# Altium integrated library Linear Technology Power Management Switching Regulator LTC1174-LTC3901.IntLib: 2647 symbols (part 342 of 364)
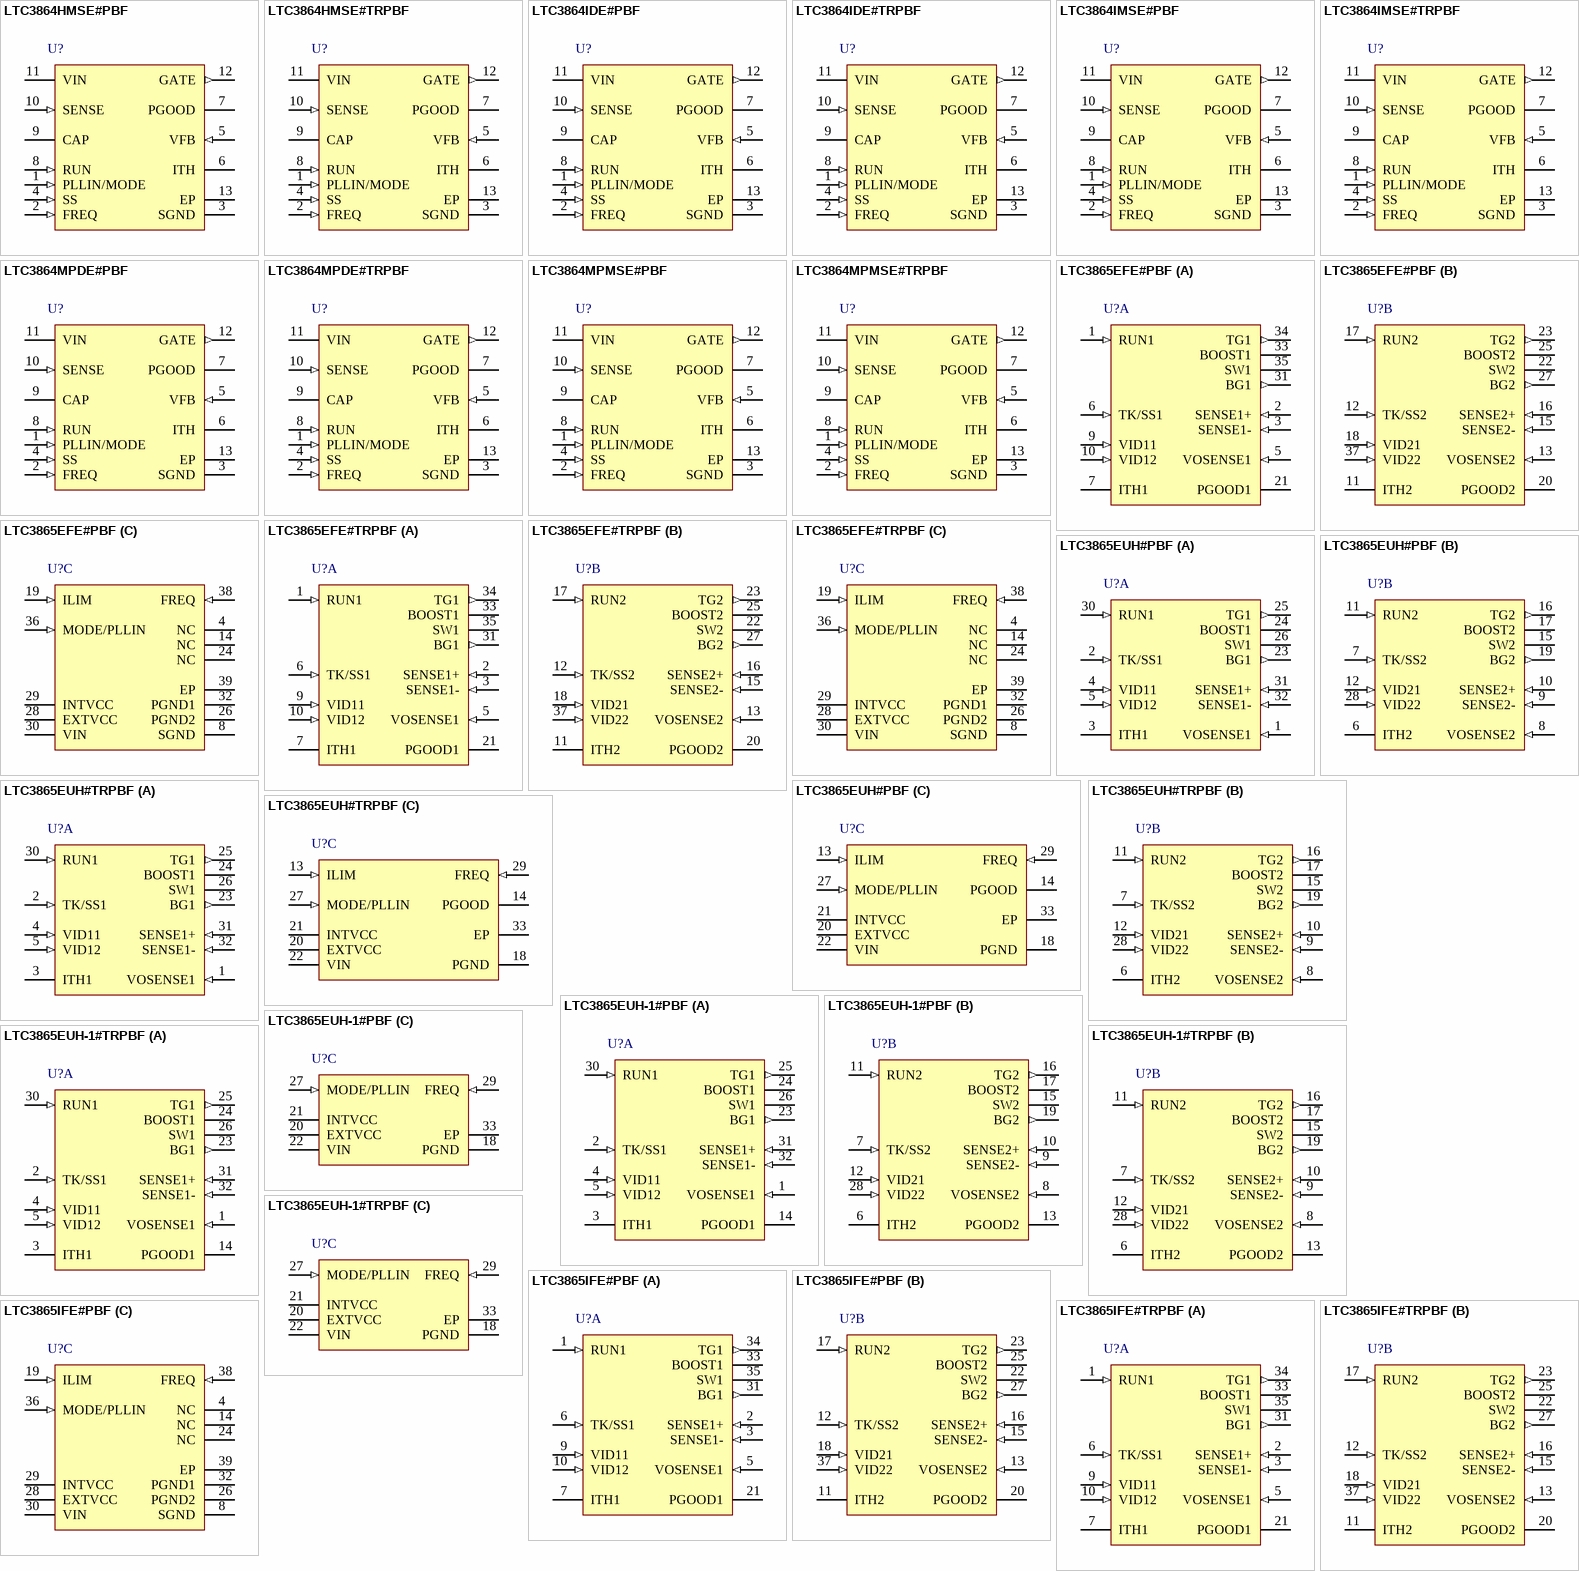
[diagram p294: symbols LTC3864HMSE#PBF to LTC3865IFE#TRPBF]

## LTC3864HMSE#TRPBF
designator U?
Low IQ Step-Down DC/DC Controller with 100% Duty Cycle Capability, 12-pin SOP (MSE-12-EDP), -40 to 150 degC, Pb-Free, Tape and Reel; Manufacturer: Linear Technology; PartNumber: LTC3864HMSE#TRPBF; Frequency Sync Range: 75kHz - 750kHz; Number of Outputs: 1; PackageVersion: Rev. G, 05/2013; PackageReference: MSE-12-EDP; PackageDescription: 12-Pin Plastic MSOP, Exposed Die Pad, Body 4.039 x 3 mm, Pitch 0.65 mm; Supplier 1: Digi-Key; Supplier Part Number 1: LTC3864HMSE#TRPBF-ND; Supplier 2: Newark; Supplier Part Number 2: 48W6404; Packing: Tape and Reel; RoHS: TRUE; Mounting Technology: Surface Mount; ComponentLink1Description: Manufacturer URL; ComponentLink1URL: http://www.linear.com/; ComponentLink2Description: Datasheet; ComponentLink2URL: http://cds.linear.com/docs/en/datasheet/3864f.pdf; ComponentLink3Description: Package Specification; ComponentLink3URL: http://cds.linear.com/docs/en/packaging/05081666_G_MSE12.pdf
footprint LT-MSE-12-EDP_N (SOP, 12-Leads, Body 4.1x3.1mm, Pitch 0.65mm, Thermal Pad 2.95x1.76mm, IPC Medium Density)
footprint LT-MSE-12-EDP_L (SOP, 12-Leads, Body 4.1x3.1mm, Pitch 0.65mm, Thermal Pad 2.95x1.76mm, IPC High Density)
footprint LT-MSE-12-EDP_M (SOP, 12-Leads, Body 4.1x3.1mm, Pitch 0.65mm, Thermal Pad 2.95x1.76mm, IPC Low Density)
pins: 1 PLLIN/MODE (in) "External Reference Clock Input and Burst Mode Enable/Disable. When an external clock is applied to this pin, the internal phase-locked loop will synchronize the turn-on edge of the gate drive signal with the rising edge of (See Datasheet)", 2 FREQ (in) "Switching Frequency Set Point Input. The switching frequency is programmed by an external setpoint resistor RFREQ connected between the FREQ pin and signal ground. An internal 20uA current source creates a voltage across the (See Datasheet)", 3 SGND (power) "Ground Reference for Small Signal Analog Component (Signal Ground). Signal ground should be used as the common ground for all small signal analog inputs and compensation components. Connect signal ground to power ground (See Datasheet)", 4 SS (in) "Soft-Start and External Tracking Input. The LTC3864 regulates the feedback voltage to the smaller of 0.8V or the voltage on the SS pin. An internal 10uA pull-up current source is connected to this pin. A capacitor to ground (See Datasheet)", 5 VFB (in) "Output Feedback Sense. A resistor divider from the regulated output point to this pin sets the output voltage. The LTC3864 will nominally regulate VFB to the internal reference value of 0.8V. If VFB is less than 0.4V, the (See Datasheet)", 6 ITH "Current Control Threshold and Controller Compensation Point. This pin is the output of the error amplifier and the switching regulator? compensation point. The voltage ranges from 0V to 2.9V, with 0.8V corresponding t(See Datasheet)", 7 PGOOD (oc) "Power Good Indicator Output. This open drain logic output is pulled to ground when the output voltage is outside of a +/-10% window around the regulation point. The PGOOD switches states only after a 100us delay.", 8 RUN (in) "Digital Run Control Input. A RUN voltage above the 1.26V threshold enables normal operation, while a voltage below the threshold shuts down the controller. An internal 0.4uA current source pulls the RUN pin up to about 3.3V. (See Datasheet)", 9 CAP (power) "Gate Driver (-) Supply. A low ESR ceramic bypass capacitor of at least 0.1uF or 10X the effective CMILLER of the P-channel power MOSFET, is required from VIN to this pin to serve as a bypass capacitor for the internal (See Datasheet)", 10 SENSE (in) "Current Sense Input. A sense resistor RSENSE from VIN pin to the SENSE pin sets the maximum current limit. The peak inductor current limit is equal to 95mV/RSENSE. For accuracy, it is important that the VINpin and the SENSE (See Datasheet)", 11 VIN (power) "Chip Power Supply. A minimum bypass capacitor of 0.1uF is required from the VIN pin to power ground. For best performance use a low ESR ceramic capacitor placed near the VIN pin.", 12 GATE (out) "Gate Drive Output for External P-Channel MOSFET. The gate driver bias supply voltage (VIN-VCAP) is regulated to 8V when VIN is greater than 8V. The gate driver is disabled when (VIN-VCAP) is less than 3.5V (typical), 3.8V (See Datasheet)", 13 EP (power) "Ground Reference for Power Components (Power Ground). The PGND exposed pad must be soldered to the circuit board for electrical contact and for rated thermal performance of the package. Connect signal ground to power ground (See Datasheet)"

## LTC3864IDE#PBF
designator U?
Low IQ Step-Down DC/DC Controller with 100% Duty Cycle Capability, 12-pin SON (DE-UE-12), -40 to 125 degC, Pb-Free; Manufacturer: Linear Technology; PartNumber: LTC3864IDE#PBF; Frequency Sync Range: 75kHz - 750kHz; Number of Outputs: 1; PackageVersion: Rev. D, 06/2010; PackageReference: DE-UE-12; PackageDescription: 12-Pin Plastic DFN, Body 4 x 3 mm, Pitch 0.5 mm; Supplier 1: Digi-Key; Supplier Part Number 1: LTC3864IDE#PBF-ND; Supplier 2: Farnell; Supplier Part Number 2: 2293131; Supplier 3: Newark; Supplier Part Number 3: 48W6405; RoHS: TRUE; Mounting Technology: Surface Mount; Code_JEDEC: MO-229; ComponentLink1Description: Manufacturer URL; ComponentLink1URL: http://www.linear.com/; ComponentLink2Description: Datasheet; ComponentLink2URL: http://cds.linear.com/docs/en/datasheet/3864f.pdf; ComponentLink3Description: Package Specification; ComponentLink3URL: http://cds.linear.com/docs/en/packaging/DFN_12_05-08-1695.pdf
footprint LT-DE-UE-12_V (SON, 12-Leads, Body 4x3mm, Pitch 0.5mm, Thermal Pad 3.3x1.7mm)
pins: 1 PLLIN/MODE (in) "External Reference Clock Input and Burst Mode Enable/Disable. When an external clock is applied to this pin, the internal phase-locked loop will synchronize the turn-on edge of the gate drive signal with the rising edge of (See Datasheet)", 2 FREQ (in) "Switching Frequency Set Point Input. The switching frequency is programmed by an external setpoint resistor RFREQ connected between the FREQ pin and signal ground. An internal 20uA current source creates a voltage across the (See Datasheet)", 3 SGND (power) "Ground Reference for Small Signal Analog Component (Signal Ground). Signal ground should be used as the common ground for all small signal analog inputs and compensation components. Connect signal ground to power ground (See Datasheet)", 4 SS (in) "Soft-Start and External Tracking Input. The LTC3864 regulates the feedback voltage to the smaller of 0.8V or the voltage on the SS pin. An internal 10uA pull-up current source is connected to this pin. A capacitor to ground (See Datasheet)", 5 VFB (in) "Output Feedback Sense. A resistor divider from the regulated output point to this pin sets the output voltage. The LTC3864 will nominally regulate VFB to the internal reference value of 0.8V. If VFB is less than 0.4V, the (See Datasheet)", 6 ITH "Current Control Threshold and Controller Compensation Point. This pin is the output of the error amplifier and the switching regulator? compensation point. The voltage ranges from 0V to 2.9V, with 0.8V corresponding t(See Datasheet)", 7 PGOOD (oc) "Power Good Indicator Output. This open drain logic output is pulled to ground when the output voltage is outside of a +/-10% window around the regulation point. The PGOOD switches states only after a 100us delay.", 8 RUN (in) "Digital Run Control Input. A RUN voltage above the 1.26V threshold enables normal operation, while a voltage below the threshold shuts down the controller. An internal 0.4uA current source pulls the RUN pin up to about 3.3V. (See Datasheet)", 9 CAP (power) "Gate Driver (-) Supply. A low ESR ceramic bypass capacitor of at least 0.1uF or 10X the effective CMILLER of the P-channel power MOSFET, is required from VIN to this pin to serve as a bypass capacitor for the internal (See Datasheet)", 10 SENSE (in) "Current Sense Input. A sense resistor RSENSE from VIN pin to the SENSE pin sets the maximum current limit. The peak inductor current limit is equal to 95mV/RSENSE. For accuracy, it is important that the VINpin and the SENSE (See Datasheet)", 11 VIN (power) "Chip Power Supply. A minimum bypass capacitor of 0.1uF is required from the VIN pin to power ground. For best performance use a low ESR ceramic capacitor placed near the VIN pin.", 12 GATE (out) "Gate Drive Output for External P-Channel MOSFET. The gate driver bias supply voltage (VIN-VCAP) is regulated to 8V when VIN is greater than 8V. The gate driver is disabled when (VIN-VCAP) is less than 3.5V (typical), 3.8V (See Datasheet)", 13 EP (power) "Ground Reference for Power Components (Power Ground). The PGND exposed pad must be soldered to the circuit board for electrical contact and for rated thermal performance of the package. Connect signal ground to power ground (See Datasheet)"

## LTC3864IDE#TRPBF
designator U?
Low IQ Step-Down DC/DC Controller with 100% Duty Cycle Capability, 12-pin SON (DE-UE-12), -40 to 125 degC, Pb-Free, Tape and Reel; Manufacturer: Linear Technology; PartNumber: LTC3864IDE#TRPBF; Frequency Sync Range: 75kHz - 750kHz; Number of Outputs: 1; PackageVersion: Rev. D, 06/2010; PackageReference: DE-UE-12; PackageDescription: 12-Pin Plastic DFN, Body 4 x 3 mm, Pitch 0.5 mm; Supplier 1: Digi-Key; Supplier Part Number 1: LTC3864IDE#TRPBF-ND; Supplier 2: Newark; Supplier Part Number 2: 48W6406; Packing: Tape and Reel; RoHS: TRUE; Mounting Technology: Surface Mount; Code_JEDEC: MO-229; ComponentLink1Description: Manufacturer URL; ComponentLink1URL: http://www.linear.com/; ComponentLink2Description: Datasheet; ComponentLink2URL: http://cds.linear.com/docs/en/datasheet/3864f.pdf; ComponentLink3Description: Package Specification; ComponentLink3URL: http://cds.linear.com/docs/en/packaging/DFN_12_05-08-1695.pdf
footprint LT-DE-UE-12_V (SON, 12-Leads, Body 4x3mm, Pitch 0.5mm, Thermal Pad 3.3x1.7mm)
pins: 1 PLLIN/MODE (in) "External Reference Clock Input and Burst Mode Enable/Disable. When an external clock is applied to this pin, the internal phase-locked loop will synchronize the turn-on edge of the gate drive signal with the rising edge of (See Datasheet)", 2 FREQ (in) "Switching Frequency Set Point Input. The switching frequency is programmed by an external setpoint resistor RFREQ connected between the FREQ pin and signal ground. An internal 20uA current source creates a voltage across the (See Datasheet)", 3 SGND (power) "Ground Reference for Small Signal Analog Component (Signal Ground). Signal ground should be used as the common ground for all small signal analog inputs and compensation components. Connect signal ground to power ground (See Datasheet)", 4 SS (in) "Soft-Start and External Tracking Input. The LTC3864 regulates the feedback voltage to the smaller of 0.8V or the voltage on the SS pin. An internal 10uA pull-up current source is connected to this pin. A capacitor to ground (See Datasheet)", 5 VFB (in) "Output Feedback Sense. A resistor divider from the regulated output point to this pin sets the output voltage. The LTC3864 will nominally regulate VFB to the internal reference value of 0.8V. If VFB is less than 0.4V, the (See Datasheet)", 6 ITH "Current Control Threshold and Controller Compensation Point. This pin is the output of the error amplifier and the switching regulator? compensation point. The voltage ranges from 0V to 2.9V, with 0.8V corresponding t(See Datasheet)", 7 PGOOD (oc) "Power Good Indicator Output. This open drain logic output is pulled to ground when the output voltage is outside of a +/-10% window around the regulation point. The PGOOD switches states only after a 100us delay.", 8 RUN (in) "Digital Run Control Input. A RUN voltage above the 1.26V threshold enables normal operation, while a voltage below the threshold shuts down the controller. An internal 0.4uA current source pulls the RUN pin up to about 3.3V. (See Datasheet)", 9 CAP (power) "Gate Driver (-) Supply. A low ESR ceramic bypass capacitor of at least 0.1uF or 10X the effective CMILLER of the P-channel power MOSFET, is required from VIN to this pin to serve as a bypass capacitor for the internal (See Datasheet)", 10 SENSE (in) "Current Sense Input. A sense resistor RSENSE from VIN pin to the SENSE pin sets the maximum current limit. The peak inductor current limit is equal to 95mV/RSENSE. For accuracy, it is important that the VINpin and the SENSE (See Datasheet)", 11 VIN (power) "Chip Power Supply. A minimum bypass capacitor of 0.1uF is required from the VIN pin to power ground. For best performance use a low ESR ceramic capacitor placed near the VIN pin.", 12 GATE (out) "Gate Drive Output for External P-Channel MOSFET. The gate driver bias supply voltage (VIN-VCAP) is regulated to 8V when VIN is greater than 8V. The gate driver is disabled when (VIN-VCAP) is less than 3.5V (typical), 3.8V (See Datasheet)", 13 EP (power) "Ground Reference for Power Components (Power Ground). The PGND exposed pad must be soldered to the circuit board for electrical contact and for rated thermal performance of the package. Connect signal ground to power ground (See Datasheet)"

## LTC3864IMSE#PBF
designator U?
Low IQ Step-Down DC/DC Controller with 100% Duty Cycle Capability, 12-pin SOP (MSE-12-EDP), -40 to 125 degC, Pb-Free; Manufacturer: Linear Technology; PartNumber: LTC3864IMSE#PBF; Frequency Sync Range: 75kHz - 750kHz; Number of Outputs: 1; PackageVersion: Rev. G, 05/2013; PackageReference: MSE-12-EDP; PackageDescription: 12-Pin Plastic MSOP, Exposed Die Pad, Body 4.039 x 3 mm, Pitch 0.65 mm; Supplier 1: Digi-Key; Supplier Part Number 1: LTC3864IMSE#PBF-ND; Supplier 2: Farnell; Supplier Part Number 2: 2293132; Supplier 3: Newark; Supplier Part Number 3: 48W6407; RoHS: TRUE; Mounting Technology: Surface Mount; ComponentLink1Description: Manufacturer URL; ComponentLink1URL: http://www.linear.com/; ComponentLink2Description: Datasheet; ComponentLink2URL: http://cds.linear.com/docs/en/datasheet/3864f.pdf; ComponentLink3Description: Package Specification; ComponentLink3URL: http://cds.linear.com/docs/en/packaging/05081666_G_MSE12.pdf
footprint LT-MSE-12-EDP_N (SOP, 12-Leads, Body 4.1x3.1mm, Pitch 0.65mm, Thermal Pad 2.95x1.76mm, IPC Medium Density)
footprint LT-MSE-12-EDP_L (SOP, 12-Leads, Body 4.1x3.1mm, Pitch 0.65mm, Thermal Pad 2.95x1.76mm, IPC High Density)
footprint LT-MSE-12-EDP_M (SOP, 12-Leads, Body 4.1x3.1mm, Pitch 0.65mm, Thermal Pad 2.95x1.76mm, IPC Low Density)
pins: 1 PLLIN/MODE (in) "External Reference Clock Input and Burst Mode Enable/Disable. When an external clock is applied to this pin, the internal phase-locked loop will synchronize the turn-on edge of the gate drive signal with the rising edge of (See Datasheet)", 2 FREQ (in) "Switching Frequency Set Point Input. The switching frequency is programmed by an external setpoint resistor RFREQ connected between the FREQ pin and signal ground. An internal 20uA current source creates a voltage across the (See Datasheet)", 3 SGND (power) "Ground Reference for Small Signal Analog Component (Signal Ground). Signal ground should be used as the common ground for all small signal analog inputs and compensation components. Connect signal ground to power ground (See Datasheet)", 4 SS (in) "Soft-Start and External Tracking Input. The LTC3864 regulates the feedback voltage to the smaller of 0.8V or the voltage on the SS pin. An internal 10uA pull-up current source is connected to this pin. A capacitor to ground (See Datasheet)", 5 VFB (in) "Output Feedback Sense. A resistor divider from the regulated output point to this pin sets the output voltage. The LTC3864 will nominally regulate VFB to the internal reference value of 0.8V. If VFB is less than 0.4V, the (See Datasheet)", 6 ITH "Current Control Threshold and Controller Compensation Point. This pin is the output of the error amplifier and the switching regulator? compensation point. The voltage ranges from 0V to 2.9V, with 0.8V corresponding t(See Datasheet)", 7 PGOOD (oc) "Power Good Indicator Output. This open drain logic output is pulled to ground when the output voltage is outside of a +/-10% window around the regulation point. The PGOOD switches states only after a 100us delay.", 8 RUN (in) "Digital Run Control Input. A RUN voltage above the 1.26V threshold enables normal operation, while a voltage below the threshold shuts down the controller. An internal 0.4uA current source pulls the RUN pin up to about 3.3V. (See Datasheet)", 9 CAP (power) "Gate Driver (-) Supply. A low ESR ceramic bypass capacitor of at least 0.1uF or 10X the effective CMILLER of the P-channel power MOSFET, is required from VIN to this pin to serve as a bypass capacitor for the internal (See Datasheet)", 10 SENSE (in) "Current Sense Input. A sense resistor RSENSE from VIN pin to the SENSE pin sets the maximum current limit. The peak inductor current limit is equal to 95mV/RSENSE. For accuracy, it is important that the VINpin and the SENSE (See Datasheet)", 11 VIN (power) "Chip Power Supply. A minimum bypass capacitor of 0.1uF is required from the VIN pin to power ground. For best performance use a low ESR ceramic capacitor placed near the VIN pin.", 12 GATE (out) "Gate Drive Output for External P-Channel MOSFET. The gate driver bias supply voltage (VIN-VCAP) is regulated to 8V when VIN is greater than 8V. The gate driver is disabled when (VIN-VCAP) is less than 3.5V (typical), 3.8V (See Datasheet)", 13 EP (power) "Ground Reference for Power Components (Power Ground). The PGND exposed pad must be soldered to the circuit board for electrical contact and for rated thermal performance of the package. Connect signal ground to power ground (See Datasheet)"

## LTC3864IMSE#TRPBF
designator U?
Low IQ Step-Down DC/DC Controller with 100% Duty Cycle Capability, 12-pin SOP (MSE-12-EDP), -40 to 125 degC, Pb-Free, Tape and Reel; Manufacturer: Linear Technology; PartNumber: LTC3864IMSE#TRPBF; Frequency Sync Range: 75kHz - 750kHz; Number of Outputs: 1; PackageVersion: Rev. G, 05/2013; PackageReference: MSE-12-EDP; PackageDescription: 12-Pin Plastic MSOP, Exposed Die Pad, Body 4.039 x 3 mm, Pitch 0.65 mm; Supplier 1: Digi-Key; Supplier Part Number 1: LTC3864IMSE#TRPBF-ND; Supplier 2: Newark; Supplier Part Number 2: 48W6408; Packing: Tape and Reel; RoHS: TRUE; Mounting Technology: Surface Mount; ComponentLink1Description: Manufacturer URL; ComponentLink1URL: http://www.linear.com/; ComponentLink2Description: Datasheet; ComponentLink2URL: http://cds.linear.com/docs/en/datasheet/3864f.pdf; ComponentLink3Description: Package Specification; ComponentLink3URL: http://cds.linear.com/docs/en/packaging/05081666_G_MSE12.pdf
footprint LT-MSE-12-EDP_N (SOP, 12-Leads, Body 4.1x3.1mm, Pitch 0.65mm, Thermal Pad 2.95x1.76mm, IPC Medium Density)
footprint LT-MSE-12-EDP_L (SOP, 12-Leads, Body 4.1x3.1mm, Pitch 0.65mm, Thermal Pad 2.95x1.76mm, IPC High Density)
footprint LT-MSE-12-EDP_M (SOP, 12-Leads, Body 4.1x3.1mm, Pitch 0.65mm, Thermal Pad 2.95x1.76mm, IPC Low Density)
pins: 1 PLLIN/MODE (in) "External Reference Clock Input and Burst Mode Enable/Disable. When an external clock is applied to this pin, the internal phase-locked loop will synchronize the turn-on edge of the gate drive signal with the rising edge of (See Datasheet)", 2 FREQ (in) "Switching Frequency Set Point Input. The switching frequency is programmed by an external setpoint resistor RFREQ connected between the FREQ pin and signal ground. An internal 20uA current source creates a voltage across the (See Datasheet)", 3 SGND (power) "Ground Reference for Small Signal Analog Component (Signal Ground). Signal ground should be used as the common ground for all small signal analog inputs and compensation components. Connect signal ground to power ground (See Datasheet)", 4 SS (in) "Soft-Start and External Tracking Input. The LTC3864 regulates the feedback voltage to the smaller of 0.8V or the voltage on the SS pin. An internal 10uA pull-up current source is connected to this pin. A capacitor to ground (See Datasheet)", 5 VFB (in) "Output Feedback Sense. A resistor divider from the regulated output point to this pin sets the output voltage. The LTC3864 will nominally regulate VFB to the internal reference value of 0.8V. If VFB is less than 0.4V, the (See Datasheet)", 6 ITH "Current Control Threshold and Controller Compensation Point. This pin is the output of the error amplifier and the switching regulator? compensation point. The voltage ranges from 0V to 2.9V, with 0.8V corresponding t(See Datasheet)", 7 PGOOD (oc) "Power Good Indicator Output. This open drain logic output is pulled to ground when the output voltage is outside of a +/-10% window around the regulation point. The PGOOD switches states only after a 100us delay.", 8 RUN (in) "Digital Run Control Input. A RUN voltage above the 1.26V threshold enables normal operation, while a voltage below the threshold shuts down the controller. An internal 0.4uA current source pulls the RUN pin up to about 3.3V. (See Datasheet)", 9 CAP (power) "Gate Driver (-) Supply. A low ESR ceramic bypass capacitor of at least 0.1uF or 10X the effective CMILLER of the P-channel power MOSFET, is required from VIN to this pin to serve as a bypass capacitor for the internal (See Datasheet)", 10 SENSE (in) "Current Sense Input. A sense resistor RSENSE from VIN pin to the SENSE pin sets the maximum current limit. The peak inductor current limit is equal to 95mV/RSENSE. For accuracy, it is important that the VINpin and the SENSE (See Datasheet)", 11 VIN (power) "Chip Power Supply. A minimum bypass capacitor of 0.1uF is required from the VIN pin to power ground. For best performance use a low ESR ceramic capacitor placed near the VIN pin.", 12 GATE (out) "Gate Drive Output for External P-Channel MOSFET. The gate driver bias supply voltage (VIN-VCAP) is regulated to 8V when VIN is greater than 8V. The gate driver is disabled when (VIN-VCAP) is less than 3.5V (typical), 3.8V (See Datasheet)", 13 EP (power) "Ground Reference for Power Components (Power Ground). The PGND exposed pad must be soldered to the circuit board for electrical contact and for rated thermal performance of the package. Connect signal ground to power ground (See Datasheet)"

## LTC3864MPDE#PBF
designator U?
Low IQ Step-Down DC/DC Controller with 100% Duty Cycle Capability, 12-pin SON (DE-UE-12), -55 to 150 degC, Pb-Free; Manufacturer: Linear Technology; PartNumber: LTC3864MPDE#PBF; Frequency Sync Range: 75kHz - 750kHz; Number of Outputs: 1; PackageVersion: Rev. D, 06/2010; PackageReference: DE-UE-12; PackageDescription: 12-Pin Plastic DFN, Body 4 x 3 mm, Pitch 0.5 mm; Supplier 1: Digi-Key; Supplier Part Number 1: LTC3864MPDE#PBF-ND; Supplier 2: Farnell; Supplier Part Number 2: 2293133; Supplier 3: Newark; Supplier Part Number 3: 48W6409; RoHS: TRUE; Mounting Technology: Surface Mount; Code_JEDEC: MO-229; ComponentLink1Description: Manufacturer URL; ComponentLink1URL: http://www.linear.com/; ComponentLink2Description: Datasheet; ComponentLink2URL: http://cds.linear.com/docs/en/datasheet/3864f.pdf; ComponentLink3Description: Package Specification; ComponentLink3URL: http://cds.linear.com/docs/en/packaging/DFN_12_05-08-1695.pdf
footprint LT-DE-UE-12_V (SON, 12-Leads, Body 4x3mm, Pitch 0.5mm, Thermal Pad 3.3x1.7mm)
pins: 1 PLLIN/MODE (in) "External Reference Clock Input and Burst Mode Enable/Disable. When an external clock is applied to this pin, the internal phase-locked loop will synchronize the turn-on edge of the gate drive signal with the rising edge of (See Datasheet)", 2 FREQ (in) "Switching Frequency Set Point Input. The switching frequency is programmed by an external setpoint resistor RFREQ connected between the FREQ pin and signal ground. An internal 20uA current source creates a voltage across the (See Datasheet)", 3 SGND (power) "Ground Reference for Small Signal Analog Component (Signal Ground). Signal ground should be used as the common ground for all small signal analog inputs and compensation components. Connect signal ground to power ground (See Datasheet)", 4 SS (in) "Soft-Start and External Tracking Input. The LTC3864 regulates the feedback voltage to the smaller of 0.8V or the voltage on the SS pin. An internal 10uA pull-up current source is connected to this pin. A capacitor to ground (See Datasheet)", 5 VFB (in) "Output Feedback Sense. A resistor divider from the regulated output point to this pin sets the output voltage. The LTC3864 will nominally regulate VFB to the internal reference value of 0.8V. If VFB is less than 0.4V, the (See Datasheet)", 6 ITH "Current Control Threshold and Controller Compensation Point. This pin is the output of the error amplifier and the switching regulator? compensation point. The voltage ranges from 0V to 2.9V, with 0.8V corresponding t(See Datasheet)", 7 PGOOD (oc) "Power Good Indicator Output. This open drain logic output is pulled to ground when the output voltage is outside of a +/-10% window around the regulation point. The PGOOD switches states only after a 100us delay.", 8 RUN (in) "Digital Run Control Input. A RUN voltage above the 1.26V threshold enables normal operation, while a voltage below the threshold shuts down the controller. An internal 0.4uA current source pulls the RUN pin up to about 3.3V. (See Datasheet)", 9 CAP (power) "Gate Driver (-) Supply. A low ESR ceramic bypass capacitor of at least 0.1uF or 10X the effective CMILLER of the P-channel power MOSFET, is required from VIN to this pin to serve as a bypass capacitor for the internal (See Datasheet)", 10 SENSE (in) "Current Sense Input. A sense resistor RSENSE from VIN pin to the SENSE pin sets the maximum current limit. The peak inductor current limit is equal to 95mV/RSENSE. For accuracy, it is important that the VINpin and the SENSE (See Datasheet)", 11 VIN (power) "Chip Power Supply. A minimum bypass capacitor of 0.1uF is required from the VIN pin to power ground. For best performance use a low ESR ceramic capacitor placed near the VIN pin.", 12 GATE (out) "Gate Drive Output for External P-Channel MOSFET. The gate driver bias supply voltage (VIN-VCAP) is regulated to 8V when VIN is greater than 8V. The gate driver is disabled when (VIN-VCAP) is less than 3.5V (typical), 3.8V (See Datasheet)", 13 EP (power) "Ground Reference for Power Components (Power Ground). The PGND exposed pad must be soldered to the circuit board for electrical contact and for rated thermal performance of the package. Connect signal ground to power ground (See Datasheet)"

## LTC3864MPDE#TRPBF
designator U?
Low IQ Step-Down DC/DC Controller with 100% Duty Cycle Capability, 12-pin SON (DE-UE-12), -55 to 150 degC, Pb-Free, Tape and Reel; Manufacturer: Linear Technology; PartNumber: LTC3864MPDE#TRPBF; Frequency Sync Range: 75kHz - 750kHz; Number of Outputs: 1; PackageVersion: Rev. D, 06/2010; PackageReference: DE-UE-12; PackageDescription: 12-Pin Plastic DFN, Body 4 x 3 mm, Pitch 0.5 mm; Supplier 1: Digi-Key; Supplier Part Number 1: LTC3864MPDE#TRPBF-ND; Supplier 2: Newark; Supplier Part Number 2: 48W6410; Packing: Tape and Reel; RoHS: TRUE; Mounting Technology: Surface Mount; Code_JEDEC: MO-229; ComponentLink1Description: Manufacturer URL; ComponentLink1URL: http://www.linear.com/; ComponentLink2Description: Datasheet; ComponentLink2URL: http://cds.linear.com/docs/en/datasheet/3864f.pdf; ComponentLink3Description: Package Specification; ComponentLink3URL: http://cds.linear.com/docs/en/packaging/DFN_12_05-08-1695.pdf
footprint LT-DE-UE-12_V (SON, 12-Leads, Body 4x3mm, Pitch 0.5mm, Thermal Pad 3.3x1.7mm)
pins: 1 PLLIN/MODE (in) "External Reference Clock Input and Burst Mode Enable/Disable. When an external clock is applied to this pin, the internal phase-locked loop will synchronize the turn-on edge of the gate drive signal with the rising edge of (See Datasheet)", 2 FREQ (in) "Switching Frequency Set Point Input. The switching frequency is programmed by an external setpoint resistor RFREQ connected between the FREQ pin and signal ground. An internal 20uA current source creates a voltage across the (See Datasheet)", 3 SGND (power) "Ground Reference for Small Signal Analog Component (Signal Ground). Signal ground should be used as the common ground for all small signal analog inputs and compensation components. Connect signal ground to power ground (See Datasheet)", 4 SS (in) "Soft-Start and External Tracking Input. The LTC3864 regulates the feedback voltage to the smaller of 0.8V or the voltage on the SS pin. An internal 10uA pull-up current source is connected to this pin. A capacitor to ground (See Datasheet)", 5 VFB (in) "Output Feedback Sense. A resistor divider from the regulated output point to this pin sets the output voltage. The LTC3864 will nominally regulate VFB to the internal reference value of 0.8V. If VFB is less than 0.4V, the (See Datasheet)", 6 ITH "Current Control Threshold and Controller Compensation Point. This pin is the output of the error amplifier and the switching regulator? compensation point. The voltage ranges from 0V to 2.9V, with 0.8V corresponding t(See Datasheet)", 7 PGOOD (oc) "Power Good Indicator Output. This open drain logic output is pulled to ground when the output voltage is outside of a +/-10% window around the regulation point. The PGOOD switches states only after a 100us delay.", 8 RUN (in) "Digital Run Control Input. A RUN voltage above the 1.26V threshold enables normal operation, while a voltage below the threshold shuts down the controller. An internal 0.4uA current source pulls the RUN pin up to about 3.3V. (See Datasheet)", 9 CAP (power) "Gate Driver (-) Supply. A low ESR ceramic bypass capacitor of at least 0.1uF or 10X the effective CMILLER of the P-channel power MOSFET, is required from VIN to this pin to serve as a bypass capacitor for the internal (See Datasheet)", 10 SENSE (in) "Current Sense Input. A sense resistor RSENSE from VIN pin to the SENSE pin sets the maximum current limit. The peak inductor current limit is equal to 95mV/RSENSE. For accuracy, it is important that the VINpin and the SENSE (See Datasheet)", 11 VIN (power) "Chip Power Supply. A minimum bypass capacitor of 0.1uF is required from the VIN pin to power ground. For best performance use a low ESR ceramic capacitor placed near the VIN pin.", 12 GATE (out) "Gate Drive Output for External P-Channel MOSFET. The gate driver bias supply voltage (VIN-VCAP) is regulated to 8V when VIN is greater than 8V. The gate driver is disabled when (VIN-VCAP) is less than 3.5V (typical), 3.8V (See Datasheet)", 13 EP (power) "Ground Reference for Power Components (Power Ground). The PGND exposed pad must be soldered to the circuit board for electrical contact and for rated thermal performance of the package. Connect signal ground to power ground (See Datasheet)"

## LTC3864MPMSE#PBF
designator U?
Low IQ Step-Down DC/DC Controller with 100% Duty Cycle Capability, 12-pin SOP (MSE-12-EDP), -55 to 150 degC, Pb-Free; Manufacturer: Linear Technology; PartNumber: LTC3864MPMSE#PBF; Frequency Sync Range: 75kHz - 750kHz; Number of Outputs: 1; PackageVersion: Rev. G, 05/2013; PackageReference: MSE-12-EDP; PackageDescription: 12-Pin Plastic MSOP, Exposed Die Pad, Body 4.039 x 3 mm, Pitch 0.65 mm; Supplier 1: Digi-Key; Supplier Part Number 1: LTC3864MPMSE#PBF-ND; Supplier 2: Farnell; Supplier Part Number 2: 2293135; Supplier 3: Newark; Supplier Part Number 3: 48W6411; RoHS: TRUE; Mounting Technology: Surface Mount; ComponentLink1Description: Manufacturer URL; ComponentLink1URL: http://www.linear.com/; ComponentLink2Description: Datasheet; ComponentLink2URL: http://cds.linear.com/docs/en/datasheet/3864f.pdf; ComponentLink3Description: Package Specification; ComponentLink3URL: http://cds.linear.com/docs/en/packaging/05081666_G_MSE12.pdf
footprint LT-MSE-12-EDP_N (SOP, 12-Leads, Body 4.1x3.1mm, Pitch 0.65mm, Thermal Pad 2.95x1.76mm, IPC Medium Density)
footprint LT-MSE-12-EDP_L (SOP, 12-Leads, Body 4.1x3.1mm, Pitch 0.65mm, Thermal Pad 2.95x1.76mm, IPC High Density)
footprint LT-MSE-12-EDP_M (SOP, 12-Leads, Body 4.1x3.1mm, Pitch 0.65mm, Thermal Pad 2.95x1.76mm, IPC Low Density)
pins: 1 PLLIN/MODE (in) "External Reference Clock Input and Burst Mode Enable/Disable. When an external clock is applied to this pin, the internal phase-locked loop will synchronize the turn-on edge of the gate drive signal with the rising edge of (See Datasheet)", 2 FREQ (in) "Switching Frequency Set Point Input. The switching frequency is programmed by an external setpoint resistor RFREQ connected between the FREQ pin and signal ground. An internal 20uA current source creates a voltage across the (See Datasheet)", 3 SGND (power) "Ground Reference for Small Signal Analog Component (Signal Ground). Signal ground should be used as the common ground for all small signal analog inputs and compensation components. Connect signal ground to power ground (See Datasheet)", 4 SS (in) "Soft-Start and External Tracking Input. The LTC3864 regulates the feedback voltage to the smaller of 0.8V or the voltage on the SS pin. An internal 10uA pull-up current source is connected to this pin. A capacitor to ground (See Datasheet)", 5 VFB (in) "Output Feedback Sense. A resistor divider from the regulated output point to this pin sets the output voltage. The LTC3864 will nominally regulate VFB to the internal reference value of 0.8V. If VFB is less than 0.4V, the (See Datasheet)", 6 ITH "Current Control Threshold and Controller Compensation Point. This pin is the output of the error amplifier and the switching regulator? compensation point. The voltage ranges from 0V to 2.9V, with 0.8V corresponding t(See Datasheet)", 7 PGOOD (oc) "Power Good Indicator Output. This open drain logic output is pulled to ground when the output voltage is outside of a +/-10% window around the regulation point. The PGOOD switches states only after a 100us delay.", 8 RUN (in) "Digital Run Control Input. A RUN voltage above the 1.26V threshold enables normal operation, while a voltage below the threshold shuts down the controller. An internal 0.4uA current source pulls the RUN pin up to about 3.3V. (See Datasheet)", 9 CAP (power) "Gate Driver (-) Supply. A low ESR ceramic bypass capacitor of at least 0.1uF or 10X the effective CMILLER of the P-channel power MOSFET, is required from VIN to this pin to serve as a bypass capacitor for the internal (See Datasheet)", 10 SENSE (in) "Current Sense Input. A sense resistor RSENSE from VIN pin to the SENSE pin sets the maximum current limit. The peak inductor current limit is equal to 95mV/RSENSE. For accuracy, it is important that the VINpin and the SENSE (See Datasheet)", 11 VIN (power) "Chip Power Supply. A minimum bypass capacitor of 0.1uF is required from the VIN pin to power ground. For best performance use a low ESR ceramic capacitor placed near the VIN pin.", 12 GATE (out) "Gate Drive Output for External P-Channel MOSFET. The gate driver bias supply voltage (VIN-VCAP) is regulated to 8V when VIN is greater than 8V. The gate driver is disabled when (VIN-VCAP) is less than 3.5V (typical), 3.8V (See Datasheet)", 13 EP (power) "Ground Reference for Power Components (Power Ground). The PGND exposed pad must be soldered to the circuit board for electrical contact and for rated thermal performance of the package. Connect signal ground to power ground (See Datasheet)"

## LTC3864MPMSE#TRPBF
designator U?
Low IQ Step-Down DC/DC Controller with 100% Duty Cycle Capability, 12-pin SOP (MSE-12-EDP), -55 to 150 degC, Pb-Free, Tape and Reel; Manufacturer: Linear Technology; PartNumber: LTC3864MPMSE#TRPBF; Frequency Sync Range: 75kHz - 750kHz; Number of Outputs: 1; PackageVersion: Rev. G, 05/2013; PackageReference: MSE-12-EDP; PackageDescription: 12-Pin Plastic MSOP, Exposed Die Pad, Body 4.039 x 3 mm, Pitch 0.65 mm; Supplier 1: Digi-Key; Supplier Part Number 1: LTC3864MPMSE#TRPBF-ND; Supplier 2: Newark; Supplier Part Number 2: 48W6412; Packing: Tape and Reel; RoHS: TRUE; Mounting Technology: Surface Mount; ComponentLink1Description: Manufacturer URL; ComponentLink1URL: http://www.linear.com/; ComponentLink2Description: Datasheet; ComponentLink2URL: http://cds.linear.com/docs/en/datasheet/3864f.pdf; ComponentLink3Description: Package Specification; ComponentLink3URL: http://cds.linear.com/docs/en/packaging/05081666_G_MSE12.pdf
footprint LT-MSE-12-EDP_N (SOP, 12-Leads, Body 4.1x3.1mm, Pitch 0.65mm, Thermal Pad 2.95x1.76mm, IPC Medium Density)
footprint LT-MSE-12-EDP_L (SOP, 12-Leads, Body 4.1x3.1mm, Pitch 0.65mm, Thermal Pad 2.95x1.76mm, IPC High Density)
footprint LT-MSE-12-EDP_M (SOP, 12-Leads, Body 4.1x3.1mm, Pitch 0.65mm, Thermal Pad 2.95x1.76mm, IPC Low Density)
pins: 1 PLLIN/MODE (in) "External Reference Clock Input and Burst Mode Enable/Disable. When an external clock is applied to this pin, the internal phase-locked loop will synchronize the turn-on edge of the gate drive signal with the rising edge of (See Datasheet)", 2 FREQ (in) "Switching Frequency Set Point Input. The switching frequency is programmed by an external setpoint resistor RFREQ connected between the FREQ pin and signal ground. An internal 20uA current source creates a voltage across the (See Datasheet)", 3 SGND (power) "Ground Reference for Small Signal Analog Component (Signal Ground). Signal ground should be used as the common ground for all small signal analog inputs and compensation components. Connect signal ground to power ground (See Datasheet)", 4 SS (in) "Soft-Start and External Tracking Input. The LTC3864 regulates the feedback voltage to the smaller of 0.8V or the voltage on the SS pin. An internal 10uA pull-up current source is connected to this pin. A capacitor to ground (See Datasheet)", 5 VFB (in) "Output Feedback Sense. A resistor divider from the regulated output point to this pin sets the output voltage. The LTC3864 will nominally regulate VFB to the internal reference value of 0.8V. If VFB is less than 0.4V, the (See Datasheet)", 6 ITH "Current Control Threshold and Controller Compensation Point. This pin is the output of the error amplifier and the switching regulator? compensation point. The voltage ranges from 0V to 2.9V, with 0.8V corresponding t(See Datasheet)", 7 PGOOD (oc) "Power Good Indicator Output. This open drain logic output is pulled to ground when the output voltage is outside of a +/-10% window around the regulation point. The PGOOD switches states only after a 100us delay.", 8 RUN (in) "Digital Run Control Input. A RUN voltage above the 1.26V threshold enables normal operation, while a voltage below the threshold shuts down the controller. An internal 0.4uA current source pulls the RUN pin up to about 3.3V. (See Datasheet)", 9 CAP (power) "Gate Driver (-) Supply. A low ESR ceramic bypass capacitor of at least 0.1uF or 10X the effective CMILLER of the P-channel power MOSFET, is required from VIN to this pin to serve as a bypass capacitor for the internal (See Datasheet)", 10 SENSE (in) "Current Sense Input. A sense resistor RSENSE from VIN pin to the SENSE pin sets the maximum current limit. The peak inductor current limit is equal to 95mV/RSENSE. For accuracy, it is important that the VINpin and the SENSE (See Datasheet)", 11 VIN (power) "Chip Power Supply. A minimum bypass capacitor of 0.1uF is required from the VIN pin to power ground. For best performance use a low ESR ceramic capacitor placed near the VIN pin.", 12 GATE (out) "Gate Drive Output for External P-Channel MOSFET. The gate driver bias supply voltage (VIN-VCAP) is regulated to 8V when VIN is greater than 8V. The gate driver is disabled when (VIN-VCAP) is less than 3.5V (typical), 3.8V (See Datasheet)", 13 EP (power) "Ground Reference for Power Components (Power Ground). The PGND exposed pad must be soldered to the circuit board for electrical contact and for rated thermal performance of the package. Connect signal ground to power ground (See Datasheet)"

## LTC3865EFE#PBF
designator U?
Dual, 2-Phase Synchronous DC/DC Controller with Pin Selectable Output, Adjustable Current Limit, 38-pin SOP (FE-38-EPV-AA), -40 to 125 degC, Pb-Free; Manufacturer: Linear Technology; PartNumber: LTC3865EFE#PBF; Frequency Sync Range: 250kHz - 770kHz; Number of Outputs: 2; DatasheetVersion: Rev. B; PackageVersion: Rev. C, 09/2010; PackageReference: FE-38; PackageDescription: 38-Pin Plastic TSSOP, Body 9.7 x 4.4 mm, Pitch 0.5 mm; Supplier 1: Digi-Key; Supplier Part Number 1: LTC3865EFE#PBF-ND; Supplier 2: Newark; Supplier Part Number 2: 63R6807; RoHS: TRUE; Mounting Technology: Surface Mount; ComponentLink1Description: Manufacturer URL; ComponentLink1URL: http://www.linear.com/; ComponentLink2Description: Datasheet; ComponentLink2URL: http://cds.linear.com/docs/en/datasheet/3865fb.pdf; ComponentLink3Description: Package Specification; ComponentLink3URL: http://cds.linear.com/docs/en/packaging/TSSOP_38_05-08-1772.pdf
footprint LT-FE-38-EPV-AA_N (SOP, 38-Leads, Body 9.8x4.5mm, Pitch 0.5mm, Thermal Pad 4.75x2.74mm, IPC Medium Density)
footprint LT-FE-38-EPV-AA_L (SOP, 38-Leads, Body 9.8x4.5mm, Pitch 0.5mm, Thermal Pad 4.75x2.74mm, IPC High Density)
footprint LT-FE-38-EPV-AA_M (SOP, 38-Leads, Body 9.8x4.5mm, Pitch 0.5mm, Thermal Pad 4.75x2.74mm, IPC Low Density)
part A pins: 1 RUN1 (in) "Run Control Inputs. A voltage above 1.22V on either pin turns on the IC. However, forcing either of these pins below 1.22V causes the IC to shut down the circuitry required for that particular channel. There are 1uA pull-up (See Datasheet)", 2 SENSE1+ (in) "Current Sense Comparator Inputs. The (+) inputs to the current comparators are normally connected to DCR sensing networks or current sensing resistors.", 3 SENSE1- (in) "Current Sense Comparator Inputs. The (-) inputs to the current comparators are connected to the outputs", 5 VOSENSE1 (in) "When the internal programmable resistive divider is used, these pins must be connected to their corresponding outputs. When an external resistive divider is used, these pins are used for error amplifier feedback inputs. They (See Datasheet)", 6 TK/SS1 (in) "Output Voltage Tracking and Soft-Start Inputs. When one channel is configured to be master of the two channels, a capacitor to ground at this pin sets the ramp rate for the master channel’s output voltage. When a channe(See Datasheet)", 7 ITH1 "Current Control Thresholds and Error Amplifier Compensation Points. Each associated channels?current comparator tripping threshold increases with its ITH control voltage", 9 VID11 (in) "VID Inputs for Output Voltage Programming. Tie these pins to INTVCC, GND or leave them floating to set the output voltages.", 10 VID12 (in) "VID Inputs for Output Voltage Programming. Tie these pins to INTVCC, GND or leave them floating to set the output voltages.", 21 PGOOD1 (oc) "Co-Bonded Power Good Indicator Output for LTC3865 in QFN Package. Open-drain logic output that is pulled to ground when either channel output exceeds +/-10% regulation window, after the internal 20us power bad mask timer (See Datasheet)", 31 BG1 (out) "Bottom Gate Driver Outputs. These pins drive the gates of the bottom N-channel MOSFETs between PGND and INTVCC.", 33 BOOST1 "Boosted Floating Driver Supplies. The (+) terminal of the booststrap capacitors connect to these pins. These pins swing from a diode voltage drop below INTVCC up to VIN + INTVCC.", 34 TG1 (out) "Top Gate Driver Outputs. These are the outputs of floating drivers with a voltage swing equal to INTVCC superimposed on the switch nodes voltages.", 35 SW1 "Switch Node Connections to Inductors. Voltage swing at these pins is from a Schottky diode (external) voltage drop below ground to VIN."
part B pins: 11 ITH2 "Current Control Thresholds and Error Amplifier Compensation Points. Each associated channels?current comparator tripping threshold increases with its ITH control voltage", 12 TK/SS2 (in) "Output Voltage Tracking and Soft-Start Inputs. When one channel is configured to be master of the two channels, a capacitor to ground at this pin sets the ramp rate for the master channel’s output voltage. When a channe(See Datasheet)", 13 VOSENSE2 (in) "When the internal programmable resistive divider is used, these pins must be connected to their corresponding outputs. When an external resistive divider is used, these pins are used for error amplifier feedback inputs. They (See Datasheet)", 15 SENSE2- (in) "Current Sense Comparator Inputs. The (-) inputs to the current comparators are connected to the outputs", 16 SENSE2+ (in) "Current Sense Comparator Inputs. The (+) inputs to the current comparators are normally connected to DCR sensing networks or current sensing resistors.", 17 RUN2 (in) "Run Control Inputs. A voltage above 1.22V on either pin turns on the IC. However, forcing either of these pins below 1.22V causes the IC to shut down the circuitry required for that particular channel. There are 1uA pull-up (See Datasheet)", 18 VID21 (in) "VID Inputs for Output Voltage Programming. Tie these pins to INTVCC, GND or leave them floating to set the output voltages.", 20 PGOOD2 (oc) "Co-Bonded Power Good Indicator Output for LTC3865 in QFN Package. Open-drain logic output that is pulled to ground when either channel output exceeds +/-10% regulation window, after the internal 20us power bad mask timer (See Datasheet)", 22 SW2 "Switch Node Connections to Inductors. Voltage swing at these pins is from a Schottky diode (external) voltage drop below ground to VIN.", 23 TG2 (out) "Top Gate Driver Outputs. These are the outputs of floating drivers with a voltage swing equal to INTVCC superimposed on the switch nodes voltages.", 25 BOOST2 "Boosted Floating Driver Supplies. The (+) terminal of the booststrap capacitors connect to these pins. These pins swing from a diode voltage drop below INTVCC up to VIN + INTVCC.", 27 BG2 (out) "Bottom Gate Driver Outputs. These pins drive the gates of the bottom N-channel MOSFETs between PGND and INTVCC.", 37 VID22 (in) "VID Inputs for Output Voltage Programming. Tie these pins to INTVCC, GND or leave them floating to set the output voltages."
part C pins: 4 NC, 8 SGND (power) "Signal Ground. Must be soldered to PCB, providing a local ground for the control components of the IC, and be tied to the PGND pin under the IC.", 14 NC, 19 ILIM (in) "Current Comparator Sense Voltage Range Inputs. This pin can be tied to SGND, FLOAT or INTVCC to set the maximum current sense threshold for each comparator. Current comparator sense voltage range of the LTC3865-1 is set to (See Datasheet)", 24 NC, 26 PGND2 (power) "Power Ground Pin. Connect this pin closely to the sources of the bottom N-channel MOSFETs, the (-) terminal of CVCC and the (-) terminal of CIN.", 28 EXTVCC (power) "External Power Input to an Internal Switch Connected to INTVCC. This switch closes and supplies the IC power, bypassing the internal low dropout regulator, whenever EXTVCC is higher than 4.7V. Do not exceed 6V on this pin.", 29 INTVCC (power) "Internal 5V Regulator Output. The control circuits are powered from this voltage. Decouple this pin to PGND with a minimum of 4.7uF low ESR tantalum or ceramic capacitor.", 30 VIN (power) "Main Input Supply. Decouple this pin to PGND with a capacitor (0.1uF to 1uF).", 32 PGND1 (power) "Power Ground Pin. Connect this pin closely to the sources of the bottom N-channel MOSFETs, the (-) terminal of CVCC and the (-) terminal of CIN.", 36 MODE/PLLIN (in) "Force Continuous Mode, Burst Mode or Pulse-Skip Mode Selection Pin and External Synchronization Input to Phase Detector Pin. Connect this pin to SGND to force both channels in continuous mode of operation. Connect to INTVCC (See Datasheet)", 38 FREQ (in) "This pin sets the frequency of the internal oscillator. A constant current of 7.5uA is flowing out of this pin and a resistor connected to this pin setsm its DC voltage, which in turn, sets the frequency of the internal (See Datasheet)", 39 EP (power) "Signal Ground. Must be soldered to PCB, providing a local ground for the control components of the IC, and be tied to the PGND pin under the IC."